# EAGLE library part WR-TBL_2445/9 (library bauteile)
WÜRTH ELEKTRONIK Terminal Block Serie 2445 - 5.08 horizontal cable entry with rising cage clamp - WR-TBL WERI PART NO: 691 244 510 0xx
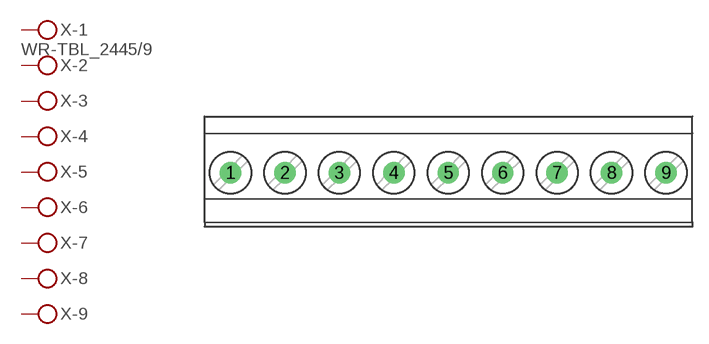
[diagram p0: symbol with the pads of WR-TBL_2445/9; footprint WR-TBL_2445/9]

Designator prefix X; gates -1=KLV -2=KL -3=KL -4=KL -5=KL -6=KL -7=KL -8=KL -9=KL

## WR-TBL_2445/9  [WR-TBL_2445/9]
1  -1:KL  pas
2  -2:KL  pas
3  -3:KL  pas
4  -4:KL  pas
5  -5:KL  pas
6  -6:KL  pas
7  -7:KL  pas
8  -8:KL  pas
9  -9:KL  pas

## Footprint WR-TBL_2445/9 (pad centres in mm)
WÜRTH ELEKTRONIK Terminal Block Serie 2445 - 5.08 horizontal cable entry with rising cage clamp - WR-TBL WERI PART NO: 691 244 510 0xx
drill 1.3 pad 2: 1 -20.341,0.025; 2 -15.261,0.025; 3 -10.181,0.025; 4 -5.101,0.025; 5 -0.021,0.025; 6 5.059,0.025; 7 10.139,0.025; 8 15.219,0.025; 9 20.299,0.025